# EAGLE library part LMG6402PLFR (library eOscope)
LCD display from HITACHI. Resolution: 240x128 pixels. No illumination. Controller: HD61830B
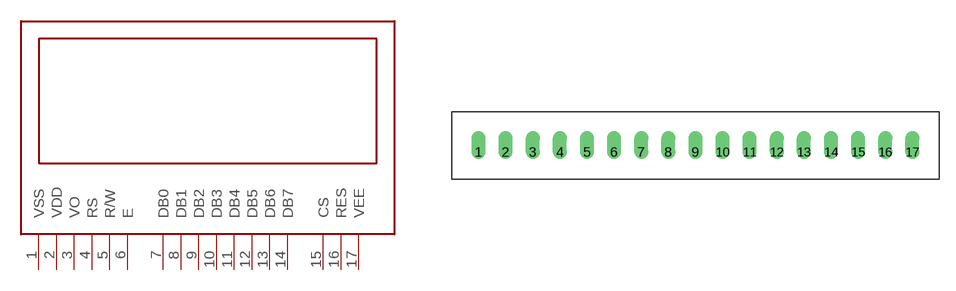
[diagram p0: symbol with the pads of LMG6402PLFR; footprint LMG6402PLFR]

Designator prefix -

## LMG6402PLFR  [LMG6402PLFR]
1  VSS
2  VDD
3  VO
4  RS
5  R/W
6  E
7  DB0
8  DB1
9  DB2
10  DB3
11  DB4
12  DB5
13  DB6
14  DB7
15  CS
16  RES
17  VEE

## Footprint LMG6402PLFR (pad centres in mm)
drill 0.813 offset: 1 -19.05,0; 2 -16.51,0; 3 -13.97,0; 4 -11.43,0; 5 -8.89,0; 6 -6.35,0; 7 -3.81,0; 8 -1.27,0; 9 1.27,0; 10 3.81,0; 11 6.35,0; 12 8.89,0; 13 11.43,0; 14 13.97,0; 15 16.51,0; 16 19.05,0; 17 21.59,0